# Altium footprint library NEO-M9N-00B.PcbLib: 1 footprints
Each footprint in its own frame and in the unit in brackets; x right, y up, seen from the top. Pads: shape width x height; smd on the part's side, far side on the other; paste and mask are expansions set on the pad; w line width, h text height; cw(c..) or ccw(c..) is an arc to the next point about the centre after c.
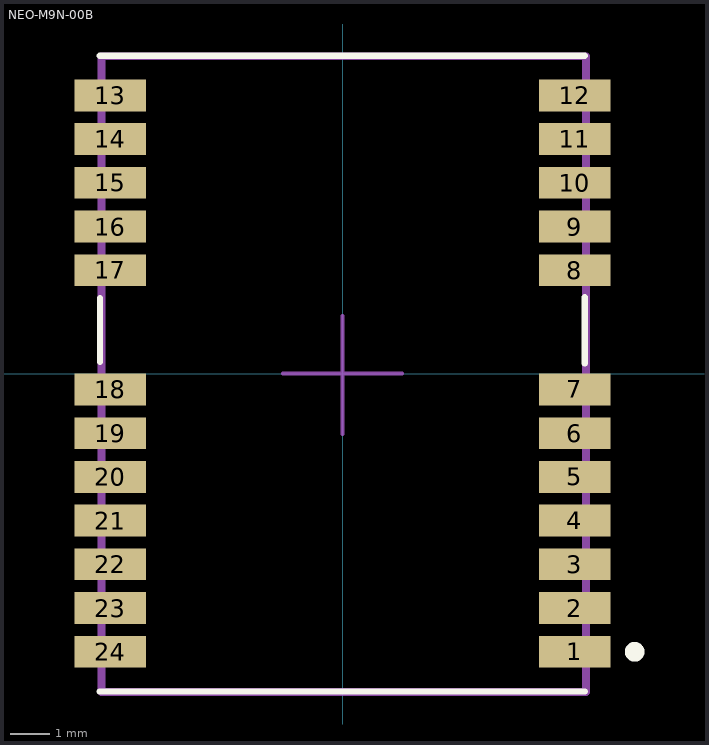
[diagram p0: the footprint, top view; thin cyan lines are the x and y axes]

## NEO-M9N-00B [mm]
pads (24):
  rect 1.8x0.8 smd paste-0.1 mask+0.051: 1(5.842,-7) 2(5.842,-5.9) 3(5.842,-4.8) 4(5.842,-3.7) 5(5.842,-2.6) 6(5.842,-1.5) 7(5.842,-0.4) 8(5.842,2.6) 9(5.842,3.7) 10(5.842,4.8) 11(5.842,5.9) 12(5.842,7) 13(-5.842,7) 14(-5.842,5.9) 15(-5.842,4.8) 16(-5.842,3.7) 17(-5.842,2.6) 18(-5.842,-0.4) 19(-5.842,-1.5) 20(-5.842,-2.6) 21(-5.842,-3.7) 22(-5.842,-4.8) 23(-5.842,-5.9) 24(-5.842,-7)
Top Overlay:
  circle w0.38: c7.35,-7 r0.058
  lines w0.16: -6.109,-8 6.096,-8 ; -6.109,7.996 6.09,7.996 ; -6.102,0.299 -6.102,1.893 ; 6.096,0.255 6.096,1.919
Top Paste:
  rectangle: -6.833,-4.1 -5.633,-3.3
  rectangle: -6.833,-7.4 -5.633,-6.6
  rectangle: -6.833,-6.3 -5.633,-5.5
  rectangle: -6.833,-5.2 -5.633,-4.4
  rectangle: -6.833,-3 -5.633,-2.2
  rectangle: -6.833,-1.9 -5.633,-1.1
  rectangle: -6.833,-0.8 -5.633,0
  rectangle: -6.833,2.2 -5.633,3
  rectangle: -6.833,3.3 -5.633,4.1
  rectangle: -6.833,4.4 -5.633,5.2
  rectangle: -6.833,5.5 -5.633,6.3
  rectangle: -6.833,6.6 -5.633,7.4
  rectangle: 5.642,6.6 6.842,7.4
  rectangle: 5.642,5.5 6.842,6.3
  rectangle: 5.642,4.4 6.842,5.2
  rectangle: 5.642,3.3 6.842,4.1
  rectangle: 5.642,2.2 6.842,3
  rectangle: 5.642,-0.8 6.842,0
  rectangle: 5.642,-1.9 6.842,-1.1
  rectangle: 5.642,-3 6.842,-2.2
  rectangle: 5.642,-4.1 6.842,-3.3
  rectangle: 5.642,-5.2 6.842,-4.4
  rectangle: 5.642,-6.3 6.842,-5.5
  rectangle: 5.642,-7.4 6.842,-6.6
Mechanical 13:
  lines w0.2: -6.068,-8.017 6.124,-8.017 6.124,7.985 -6.068,7.985 -6.068,-8.017
Mechanical 15:
  lines w0.1: -1.499,0 0,0 ; 0,-1.519 0,0 ; 0,1.445 0,0 ; 1.501,0 0,0
3D body "NEO (STEP-AP214)_B.STEP": height 2.28, standoff -0.05, extent -6.104,-8 6.096,8